# EAGLE library part TMAG5273A1QDBVT (library TMAG5273)
Board Mount Hall Effect / Magnetic Sensors This IC is a low-power linear 3D hall-effect sensor with I2C interface. This device integrates three independent Hall-effect sensors in the X, Y, and Z axes. Datasheet <https://www.ti.com/lit/ds/symlink/tmag5273.pdf?HQS=dis-mous-null-mousermode-dsf-pf-null-wwe&ts=1679672375534&ref_url=https%253A%252F%252Fwww.mouser.co.uk%252F>
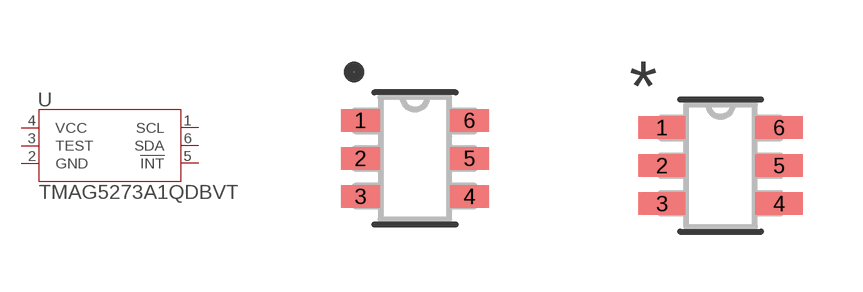
[diagram p0: symbol with the pads of SOT23-6_DBV_TEX; footprints SOT23-6_DBV_TEX, SOT23-6_DBV_TEX-M]

Designator prefix U

## TMAG5273A1QDBVT (PROD_ID: ROB-18440; VALUE: TMAG5273)  [SOT23-6_DBV_TEX]
1  SCL
2  GND  pas
3  TEST  in
4  VCC  pwr
5  !INT
6  SDA

## TMAG5273A1QDBVTSOT23-6_DBV_TEX-M (COPYRIGHT: Copyright (C) 2023 Ultra Librarian. All rights reserved.; MANUFACTURER_PART_NUMBER: TMAG5273A1QDBVT; MFR_NAME: Texas Instruments)  [SOT23-6_DBV_TEX-M]
Pads as for SOT23-6_DBV_TEX

## TMAG5273A1QDBVTSOT23-6_DBV_TEX-L (COPYRIGHT: Copyright (C) 2023 Ultra Librarian. All rights reserved.; MANUFACTURER_PART_NUMBER: TMAG5273A1QDBVT; MFR_NAME: Texas Instruments)  [SOT23-6_DBV_TEX-L]
Pads as for SOT23-6_DBV_TEX

## Footprint SOT23-6_DBV_TEX (pad centres in mm)
Board Mount Hall Effect / Magnetic Sensors This IC is a low-power linear 3D hall-effect sensor with I2C interface. This device integrates three independent Hall-effect sensors in the X, Y, and Z axes. Datasheet <https://www.ti.com/lit/ds/symlink/tmag5273.pdf?HQS=dis-mous-null-mousermode-dsf-pf-null-wwe&ts=1679672375534&ref_url=https%253A%252F%252Fwww.mouser.co.uk%252F>
smd 0.978 x 0.559: 1 -1.365,0.95; 2 -1.365,0; 3 -1.365,-0.95; 4 1.365,-0.95; 5 1.365,0; 6 1.365,0.95

## Footprint SOT23-6_DBV_TEX-M (pad centres in mm)
smd 1.181 x 0.559: 1 -1.467,0.95; 2 -1.467,0; 3 -1.467,-0.95; 4 1.467,-0.95; 5 1.467,0; 6 1.467,0.95

## Footprint SOT23-6_DBV_TEX-L (pad centres in mm)
smd 0.775 x 0.508: 1 -1.264,0.95; 2 -1.264,0; 3 -1.264,-0.95; 4 1.264,-0.95; 5 1.264,0; 6 1.264,0.95